# Altium schematic symbol library 1612901-1.SchLib: 1 symbol
Pins are listed as number, name and electrical type; pins without a type are passive.

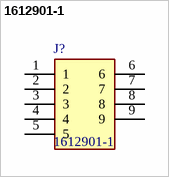
[diagram p0: symbol 1612901-1]

## 1612901-1
designator J?
Cylindrical Battery Contacts, Clips, Holders & Springs BATTERY BLOCK CONN. REC ASSY 3; Manufacturer_Name: TE Connectivity; Geometry.Height: 2.75mm; Manufacturer_Part_Number: 1612901-1; Mouser Part Number: 571-1612901-1; Mouser Price/Stock: https://www.mouser.co.uk/ProductDetail/TE-Connectivity/1612901-1?qs=y6UIinpTn8jJ98k65QdKmA%3D%3D; Arrow Part Number: 1612901-1; Arrow Price/Stock: https://www.arrow.com/en/products/1612901-1/te-connectivity; Datasheet Link: https://www.te.com/commerce/DocumentDelivery/DDEController?Action=showdoc&DocId=Customer+Drawing%7F1612901%7FB%7Fpdf%7FEnglish%7FENG_CD_1612901_B.pdf%7F1612901-1
footprint 16129011
pins: 1, 2, 3, 4, 5, 6, 7, 8, 9